# Altium schematic symbol library SCH_LIB.SchLib: 20 symbols
Pins are listed as number, name and electrical type; pins without a type are passive.

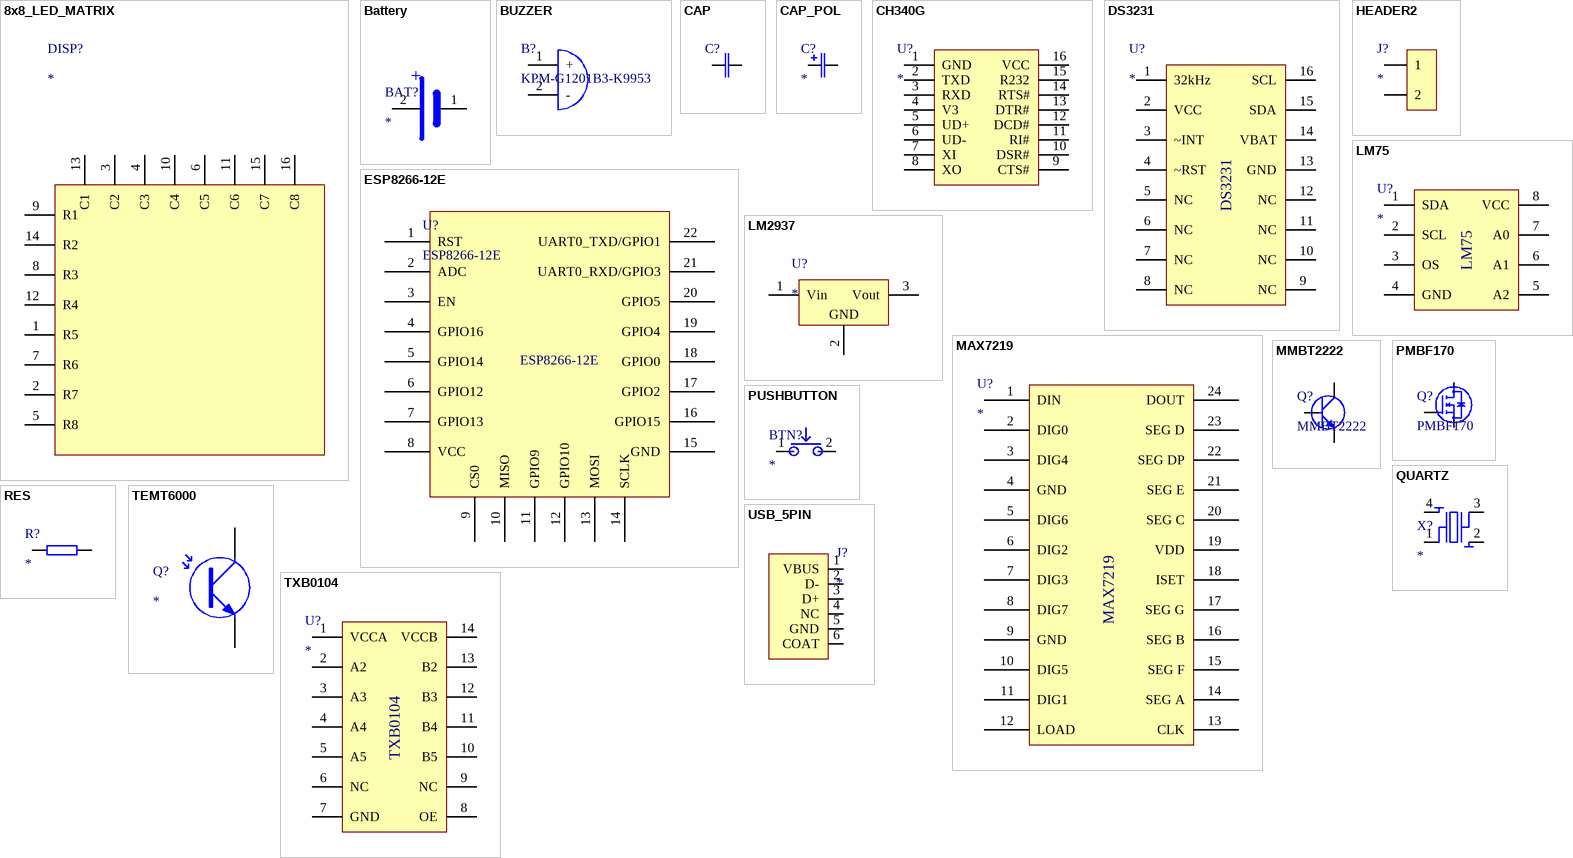
[diagram p0: symbols 8x8_LED_MATRIX to USB_5PIN]

## 8x8_LED_MATRIX
designator DISP?
8x8 LED Matrix display; DISTRIBUTOR: *; REFERENCE ID: *; VALUE: *
footprint 8x8_32mm_LED_MATRIX (32mm single color led matrix)
pins: 1 R5, 2 R7, 3 C2, 4 C3, 5 R8, 6 C5, 7 R6, 8 R3, 9 R1, 10 C4, 11 C6, 12 R4, 13 C1, 14 R2, 15 C7, 16 C8

## Battery
designator BAT?
battery; VALUE: *; DISTRIBUTOR: *; REFERENCE ID: *
footprint CR2032 (Litium battery CR2032)
pins: 1, 2
text: +

## BUZZER
designator B?, comment KPM-G1201B3-K9953
BUZZER; DISTRIBUTOR: LOMEX; REFERENCE ID: 46-02-70; VALUE: KPM-G1201B3-K9953
footprint KPM-G1201B3-K9953 (KEPO BUZZER)
pins: 1 +, 2 -

## CAP
designator C?
NON POLARIZED CAPACITOR; REFERENCE ID: *; DISTRIBUTOR: *
footprint CAP 0805 (0805 CAPACITOR)
pins: 1, 2

## CAP_POL
designator C?
POLARIZED CAPACITOR; REFERENCE ID: *; DISTRIBUTOR: *; VALUE: *
footprint CAP 1210 (POLARIZED CAPACITOR)
pins: 1 +, 2 -

## CH340G
designator U?
USB to UART; DISTRIBUTOR: *; VALUE: *; Parameter 3: *
footprint SO16
pins: 1 GND, 2 TXD, 3 RXD, 4 V3, 5 UD+, 6 UD-, 7 XI, 8 XO, 9 CTS#, 10 DSR#, 11 RI#, 12 DCD#, 13 DTR#, 14 RTS#, 15 R232, 16 VCC

## DS3231
designator U?
3.3V Real Time Clock IC; REFERENCE ID: 2798759RL; DISTRIBUTOR: FARNELL; VALUE: *
footprint SO16W
pins: 1 32kHz, 2 VCC, 3 ~INT, 4 ~RST, 5 NC, 6 NC, 7 NC, 8 NC, 9 NC, 10 NC, 11 NC, 12 NC, 13 GND, 14 VBAT, 15 SDA, 16 SCL

## ESP8266-12E
designator U?
WiFi module; REFERENCE ID: *; DISTRIBUTOR: *; VALUE: *
footprint ESP8266-12E (Wifi module)
pins: 1 RST , 2 ADC, 3 EN, 4 GPIO16, 5 GPIO14, 6 GPIO12, 7 GPIO13, 8 VCC, 9 CS0, 10 MISO, 11 GPIO9, 12 GPIO10, 13 MOSI, 14 SCLK, 15 GND, 16 GPIO15, 17 GPIO2, 18 GPIO0, 19 GPIO4, 20 GPIO5, 21 UART0_RXD/GPIO3, 22 UART0_TXD/GPIO1

## HEADER2
designator J?
2 PIN HEADER; REFERENCE ID: *; DISTRIBUTOR: *; VALUE: *
footprint SIL2 (2 PIN SINGLE IN LINE CONNECTOR)
pins: 1, 2

## LM75
designator U?
Temperature sensor with I2C interface; DISTRIBUTOR: *; REFERENCE ID: *; VALUE: *
footprint SO8 (SOIC, 8-Leads, Body 4.9x3.9mm, Pitch 1.27mm, IPC Medium Density)
pins: 1 SDA, 2 SCL, 3 OS, 4 GND, 5 A2, 6 A1, 7 A0, 8 VCC

## LM2937
designator U?
SOT223; REFERENCE ID: *; DISTRIBUTOR: *; VALUE: *
footprint SOT223
pins: 1 Vin, 2 GND, 3 Vout

## MAX7219
designator U?
8X8 LED DRIVER IC; REFERENCE ID: *; DISTRIBUTOR: *; VALUE: *
footprint SO24
pins: 1 DIN, 2 DIG0, 3 DIG4, 4 GND, 5 DIG6, 6 DIG2, 7 DIG3, 8 DIG7, 9 GND, 10 DIG5, 11 DIG1, 12 LOAD, 13 CLK, 14 SEG A, 15 SEG F, 16 SEG B, 17 SEG G, 18 ISET, 19 VDD, 20 SEG C, 21 SEG E, 22 SEG DP, 23 SEG D, 24 DOUT

## MMBT2222
designator Q?
NPN transistor, SO23; Value: MMBT2222
footprint SOT23
pins: 1 B, 2 E, 3 C

## PMBF170
designator Q?
N-Channel MOSFET; REFERENCE ID: 86-01-96; VALUE: PMBF170; DISTRIBUTOR: LOMEX
footprint SOT23
pins: 1 G, 2 S, 3 D

## PUSHBUTTON
designator BTN?
Tactile push button; REFERENCE ID: *; DISTRIBUTOR: *; VALUE: *
footprint PBUTTON
footprint PBUTTON_SMD
pins: 1, 2

## QUARTZ
designator X?
QUARTZ CRYSTAL; VALUE: *; DISTRIBUTOR: LOMEX; REFERENCE ID: 40-02-17
footprint SMD_QUARTZ (SMD Quartz 2.7mm*3.4mm)
pins: 1, 2 GND, 3, 4 GND

## RES
designator R?
RESISTOR; REFERENCE ID: *; DISTRIBUTOR: *; VALUE: *
footprint RES 0805 (0805 Resistor)
pins: 1, 2

## TEMT6000
designator Q?
Light sensor; REFERENCE ID: *; DISTRIBUTOR: *; VALUE: *
footprint TEMT600 (Ambient Light Sensor)
pins: 1 C, 2 E

## TXB0104
designator U?
Voltage level shifter; REFERENCE ID: *; DISTRIBUTOR: *; VALUE: *
footprint SO14 (SOIC, 8-Leads, Body 4.9x3.9mm, Pitch 1.27mm, IPC Medium Density)
pins: 1 VCCA, 2 A2, 3 A3, 4 A4, 5 A5, 6 NC, 7 GND, 8 OE, 9 NC, 10 B5, 11 B4, 12 B3, 13 B2, 14 VCCB

## USB_5PIN
designator J?
5PIN miniUSB SMD connector; DISTRIBUTOR: LOMEX; REFERENCE ID: 43-28-33; VALUE: *
footprint MUSB-B2.0S05PFHSB-T (Mini USB Connector SMD)
pins: 1 VBUS, 2 D-, 3 D+, 4 NC, 5 GND, 6 COAT